# Altium schematic symbol library Schlib1.SchLib: 4 symbols
Pins are listed as number, name and electrical type; pins without a type are passive.

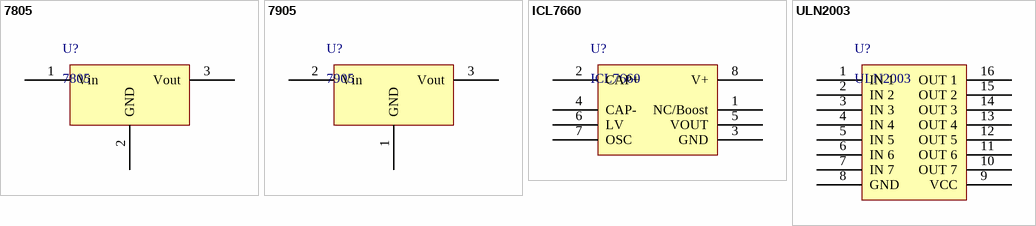
[diagram p0: symbols 7805 to ULN2003]

## 7805
designator U?
footprint 78xx
pins: 1 Vin, 2 GND, 3 Vout

## 7905
designator U?
footprint 78xx
pins: 1 GND, 2 Vin, 3 Vout

## ICL7660
designator U?
footprint DIP8
pins: 1 NC/Boost, 2 CAP+, 3 GND, 4 CAP-, 5 VOUT, 6 LV, 7 OSC, 8 V+

## ULN2003
designator U?
pins: 1 IN 1, 2 IN 2, 3 IN 3, 4 IN 4, 5 IN 5, 6 IN 6, 7 IN 7, 8 GND, 9 VCC, 10 OUT 7, 11 OUT 6, 12 OUT 5, 13 OUT 4, 14 OUT 3, 15 OUT 2, 16 OUT 1